# Altium integrated library Transistor.IntLib: 1 symbol
Pins are listed as number, name and electrical type; pins without a type are passive.

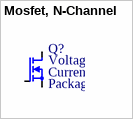
[diagram p0: symbol Mosfet, N-Channel]

## Mosfet, N-Channel
designator Q?
Component Category: Transistor; ComponentLink1Description: Datasheet; ComponentLink1URL: *; ComponentLink2Description: Supplier Link; ComponentLink2URL: *; Manufacturer Part Number: *; Supplier: *; Supplier Part Number: *; Manufacturer: *; Operating Temperature, Min: *℃; Operating Temperature, Max: *℃; Quantity, Min: *; Quantity, Max: *; Price, Min: *; Price, Max: *; Supplier Currency: *; Supplier Link: *; Component Type: Mosfet; Current: *; Voltage: *; Package: *
footprint SOT-416FL, Mosfet - Type 1
pins: D, G, S
1 alternate drawing of the same symbol